# Altium footprint library Resistor.PcbLib: 15 footprints
Each footprint in its own frame and in the unit in brackets; x right, y up, seen from the top. Pads: shape width x height; smd on the part's side, far side on the other; paste and mask are expansions set on the pad; w line width, h text height; cw(c..) or ccw(c..) is an arc to the next point about the centre after c.
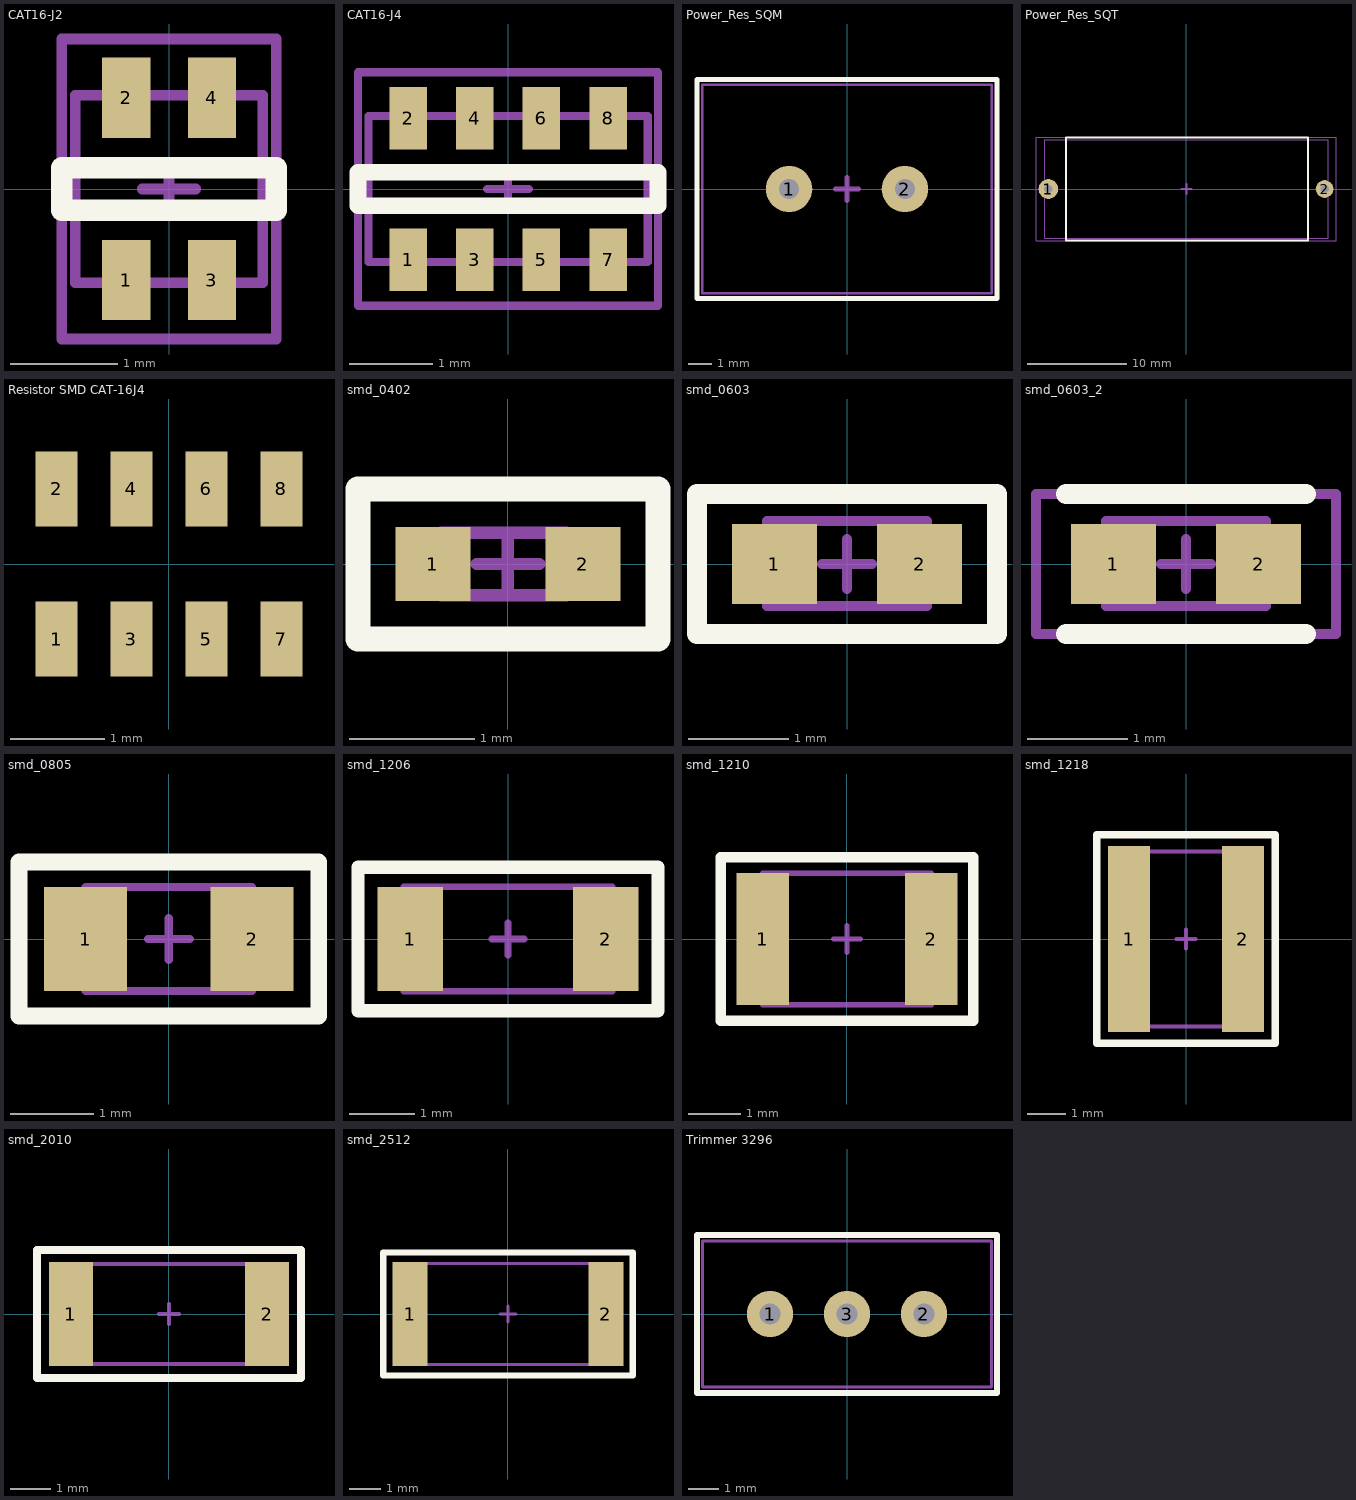
[diagram p0: the footprints below, top view; thin cyan lines are the x and y axes]

## CAT16-J2 [mm]
pads (4):
  rect 0.45x0.75 smd: 1(-0.4,-0.85) 2(-0.4,0.85) 3(0.4,-0.85) 4(0.4,0.85)
Top Overlay:
  lines w0.2: -1,-0.2 1,-0.2 1,0.2 -1,0.2 -1,-0.2
Top Assy:
  lines w0.1: -0.875,-0.875 -0.875,0.875 0.875,0.875 0.875,-0.875 -0.875,-0.875
Border:
  lines w0.1: -0.25,0 0.25,0 ; 0,-0.25 0,0.25 ; -1,-1.4 1,-1.4 1,1.4 -1,1.4 -1,-1.4
3D body "CAT16-J2.stp": height 0.75, standoff 0, extent -0.875,-0.875 0.875,0.875

## CAT16-J4 [mm]
pads (8):
  rect 0.45x0.75 smd: 1(-1.2,-0.85) 2(-1.2,0.85) 3(-0.4,-0.85) 4(-0.4,0.85) 5(0.4,-0.85) 6(0.4,0.85) 7(1.2,-0.85) 8(1.2,0.85)
Top Overlay:
  lines w0.2: -1.8,-0.2 1.8,-0.2 1.8,0.2 -1.8,0.2 -1.8,-0.2
Top Assy:
  lines w0.1: -1.675,-0.875 -1.675,0.875 1.675,0.875 1.675,-0.875 -1.675,-0.875
Border:
  lines w0.1: -0.25,0 0.25,0 ; 0,-0.25 0,0.25 ; -1.8,-1.4 1.8,-1.4 1.8,1.4 -1.8,1.4 -1.8,-1.4
3D body "CAT16-x4.stp": height 0.6, standoff 0, extent -1.675,-0.875 1.675,0.875

## Power_Res_SQM [mm]
pads (2):
  round 2 hole 0.85: 1(-2.5,0) 2(2.5,0)
Top Overlay:
  lines w0.2: -6.475,-4.725 -6.475,4.725 6.475,4.725 6.475,-4.725 -6.475,-4.725
Top Assy:
  lines w0.1: -6.25,-4.5 -6.25,4.5 6.25,4.5 6.25,-4.5 -6.25,-4.5
Border:
  lines w0.1: -6.475,-4.725 6.475,-4.725 6.475,4.725 -6.475,4.725 -6.475,-4.725
  lines w0.2: -0.5,0 0.5,0 ; 0,-0.5 0,0.5
3D body "User Library-Cement Power Resistor SQM-05 5W .step": height 25.5, standoff -4.5, extent -6.25,-4.5 6.25,4.5

## Power_Res_SQT [mm]
pads (2):
  round 2 hole 0.85: 1(-13.975,0)
  round 1.8 hole 0.85: 2(13.975,0)
Top Overlay:
  lines w0.2: -12.175,-5.225 -12.175,5.225 12.275,5.225 12.275,-5.225 -12.175,-5.225
Top Assy:
  lines w0.1: -14.345,-5 -14.345,5 14.345,5 14.345,-5 -14.345,-5
Border:
  lines w0.1: -15.225,-5.225 15.125,-5.225 15.125,5.225 -15.225,5.225 -15.225,-5.225
  lines w0.2: -0.5,0 0.5,0 ; 0,-0.5 0,0.5
3D body "User Library-Cement Fixed Resistors 5W 1K5 PCB Horizontal.step": height 9.2, standoff -3.4, extent -14.345,-5 14.345,5

## Resistor SMD CAT-16J4 [mm]
pads (8):
  rect 0.45x0.8 smd: 1(-1.2,-0.8) 2(-1.2,0.8) 3(-0.4,-0.8) 4(-0.4,0.8) 5(0.4,-0.8) 6(0.4,0.8) 7(1.2,-0.8) 8(1.2,0.8)
3D body "User Library-Array-1206-4Way-Var1.STEP": height 0.5, standoff 0, extent -1.6,-0.8 1.6,0.8

## smd_0402 [mm]
pads (2):
  rect 0.6x0.59 smd: 1(-0.6,0) 2(0.6,0)
Top Overlay:
  lines w0.2: -1.2,-0.6 -1.2,0.6 1.2,0.6 1.2,-0.6 -1.2,-0.6
Top Assy:
  lines w0.1: -0.532,-0.25 0.468,-0.25 0.468,0.25 -0.532,0.25 -0.532,-0.25
Border:
  lines w0.1: -0.25,0 0.25,0 ; 0,-0.25 0,0.25 ; -1.2,-0.6 -1.2,0.6 1.201,0.6 1.201,-0.6 -1.2,-0.6
3D body "User Library-R SMD 0402.STEP": height 0.34, standoff -0.01, extent -0.5,-0.25 0.5,0.25

## smd_0603 [mm]
pads (2):
  rect 0.85x0.8 smd: 1(-0.725,0) 2(0.725,0)
Top Overlay:
  lines w0.2: -1.5,-0.7 1.5,-0.7 1.5,0.7 -1.5,0.7 -1.5,-0.7
Top Assy:
  lines w0.1: -0.8,-0.422 -0.8,0.428 0.8,0.428 0.8,-0.422 -0.8,-0.422
Border:
  lines w0.1: -0.25,0 0.25,0 ; 0,-0.25 0,0.25 ; -1.5,-0.699 1.5,-0.699 1.5,0.7 -1.5,0.7 -1.5,-0.699
3D body "User Library-R SMD 0603.STEP": height 0.45, standoff 0, extent -0.799,-0.422 0.841,0.428

## smd_0603_2 [mm]
pads (2):
  rect 0.85x0.8 smd: 1(-0.725,0) 2(0.725,0)
Top Overlay:
  lines w0.2: -1.2,-0.7 1.2,-0.7 ; -1.2,0.7 1.2,0.7
Top Assy:
  lines w0.1: -0.8,-0.422 -0.8,0.428 0.8,0.428 0.8,-0.422 -0.8,-0.422
Border:
  lines w0.1: -0.25,0 0.25,0 ; 0,-0.25 0,0.25 ; -1.5,-0.699 1.5,-0.699 1.5,0.7 -1.5,0.7 -1.5,-0.699
3D body "User Library-R SMD 0603.STEP": height 0.45, standoff 0, extent -0.799,-0.422 0.841,0.428

## smd_0805 [mm]
pads (2):
  rect 1x1.25 smd: 1(-1,0) 2(1,0)
Top Overlay:
  lines w0.2: -1.8,-0.925 1.8,-0.925 1.8,0.925 -1.8,0.925 -1.8,-0.925
Top Assy:
  lines w0.1: -1,-0.625 1,-0.625 1,0.625 -1,0.625 -1,-0.625
Border:
  lines w0.1: -0.25,0 0.25,0 ; 0,-0.25 0,0.25 ; -1.797,-0.924 1.805,-0.924 1.805,0.925 -1.797,0.925 -1.797,-0.924
3D body "User Library-R SMD 0805.STEP": height 0.44, standoff -0.01, extent -1.001,-0.625 0.999,0.625

## smd_1206 [mm]
pads (2):
  rect 1x1.6 smd: 1(-1.5,0) 2(1.5,0)
Top Overlay:
  lines w0.2: -2.3,-1.1 2.3,-1.1 2.3,1.1 -2.3,1.1 -2.3,-1.1
Top Assy:
  lines w0.1: -1.6,-0.8 -1.6,0.8 1.6,0.8 1.6,-0.8 -1.6,-0.8
Border:
  lines w0.1: -0.25,0 0.25,0 ; 0,-0.25 0,0.25 ; -2.3,-1.1 2.3,-1.1 2.3,1.1 -2.3,1.1 -2.3,-1.1
3D body "User Library-R SMD 1206.STEP": height 0.54, standoff -0.01, extent -1.6,-0.8 1.6,0.8

## smd_1210 [mm]
pads (2):
  rect 1x2.5 smd: 1(-1.6,0) 2(1.6,0)
Top Overlay:
  lines w0.2: -2.4,-1.55 2.4,-1.55 2.4,1.55 -2.4,1.55 -2.4,-1.55
3D model:
  lines w0.1: -1.6,-1.25 1.6,-1.25 1.6,1.25 -1.6,1.25 -1.6,-1.25
Border:
  lines w0.1: -0.25,0 0.25,0 ; 0,-0.25 0,0.25 ; -2.4,-1.55 2.4,-1.55 2.4,1.55 -2.4,1.55 -2.4,-1.55
3D body "User Library-R SMD1210.step": height 0.85, standoff 0.25, extent -1.6,-1.25 1.6,1.25

## smd_1218 [mm]
pads (2):
  rect 1.1x4.9 smd: 1(-1.5,0) 2(1.5,0)
Top Overlay:
  lines w0.2: -2.35,-2.75 -2.35,2.75 2.35,2.75 2.35,-2.75 -2.35,-2.75
3D model:
  lines w0.1: -1.6,-2.305 -1.6,2.305 1.6,2.305 1.6,-2.305 -1.6,-2.305
Border:
  lines w0.1: -0.25,0 0.25,0 ; 0,-0.25 0,0.25 ; -2.35,-2.75 2.35,-2.75 2.35,2.75 -2.35,2.75 -2.35,-2.75
3D body "User Library-SMD R 1218.step": height 0.53, standoff -0.03, extent -1.6,-2.305 1.6,2.305

## smd_2010 [mm]
pads (2):
  rect 1.1x2.6 smd: 1(-2.45,0) 2(2.45,0)
Top Overlay:
  lines w0.2: -3.3,-1.6 -3.3,1.6 3.3,1.6 3.3,-1.6 -3.3,-1.6
Top Assy:
  lines w0.1: -2.5,-1.25 2.5,-1.25 2.5,1.25 -2.5,1.25 -2.5,-1.25
Border:
  lines w0.1: -0.25,0 0.25,0 ; 0,-0.25 0,0.25 ; -3.296,-1.6 -3.296,1.6 3.3,1.6 3.3,-1.6 -3.296,-1.6
3D body "User Library-R SMD 2010.step": height 0.6, standoff 0, extent -2.5,-1.25 2.5,1.25

## smd_2512 [mm]
pads (2):
  rect 1.1x3.3 smd: 1(-3.1,0) 2(3.1,0)
Top Overlay:
  lines w0.2: -3.95,-1.95 -3.95,1.95 3.95,1.95 3.95,-1.95 -3.95,-1.95
Top Assy:
  lines w0.1: -3.2,-1.6 3.2,-1.6 3.2,1.6 -3.2,1.6 -3.2,-1.6
Border:
  lines w0.1: -0.25,0 0.25,0 ; 0,-0.25 0,0.25 ; -3.95,-1.95 -3.95,1.95 3.95,1.95 3.95,-1.95 -3.95,-1.95
3D body "User Library-R SMD 2512.step": height 0.6, standoff 0, extent -3.2,-1.6 3.2,1.6

## Trimmer 3296 [mil]
pads (3):
  round 60 hole 27.56: 1(-100,0) 2(100,0) 3(0,0)
Top Overlay:
  lines w7.87: -194.88,-102.36 194.88,-102.36 194.88,102.36 -194.88,102.36 -194.88,-102.36
Top Assy:
  lines w3.94: -187.59,-95.07 -187.59,95.08 187.6,95.08 187.6,-95.07 -187.59,-95.07
Border:
  lines w3.94: -194.88,-102.36 194.88,-102.36 194.88,102.36 -194.88,102.36 -194.88,-102.36
3D body "User Library-3296_Bourns.step": height 455.12, standoff -299.61, extent -187.59,-95.07 187.6,95.08